# Altium footprint library GeekAmmo.PCBLIB: 1 footprints
Each footprint in its own frame and in the unit in brackets; x right, y up, seen from the top. Pads: shape width x height; smd on the part's side, far side on the other; paste and mask are expansions set on the pad; w line width, h text height; cw(c..) or ccw(c..) is an arc to the next point about the centre after c.
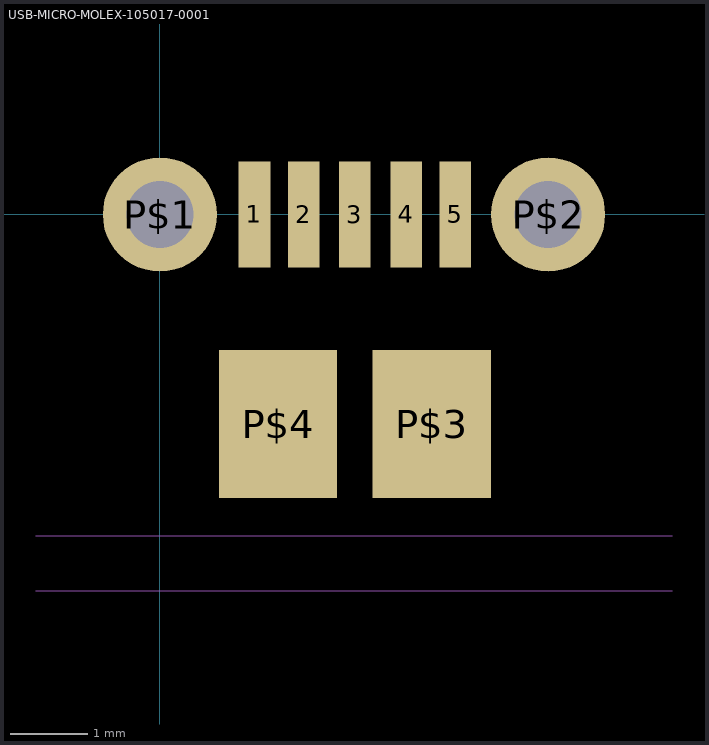
[diagram p0: the footprint, top view; thin cyan lines are the x and y axes]

## USB-MICRO-MOLEX-105017-0001 [mil]
pads (9):
  rect 16x54 smd: 1(48,0) 2(73,0) 3(99,0) 4(125,0) 5(150,0)
  round 58 hole 34: P$1(0,0) P$2(197,0)
  rect 60x75 smd: P$3(138,-106.3) P$4(60,-106.3)
Top Layer:
  region: 0,0 10,0 10,10 0,10
  region: 0,0 10,0 10,10 0,10
Mechanical 14:
  lines w0: -62.99,-190.94 260,-190.94 ; -62.99,-163.39 260,-163.39
  text "PCB EDGE" at 62,-163.39 h18.6
  text "CONNECTOR FRONT INTERFACE" at -31.5,-190.94 h18.6
Mech43:
  region: 0,0 10,0 10,10 0,10
  region: 0,0 10,0 10,10 0,10